# Altium footprint library ECE299_PCB.PcbLib: 24 footprints (part 2 of 2)
Each footprint in its own frame and in the unit in brackets; x right, y up, seen from the top. Pads: shape width x height; smd on the part's side, far side on the other; paste and mask are expansions set on the pad; w line width, h text height; cw(c..) or ccw(c..) is an arc to the next point about the centre after c.
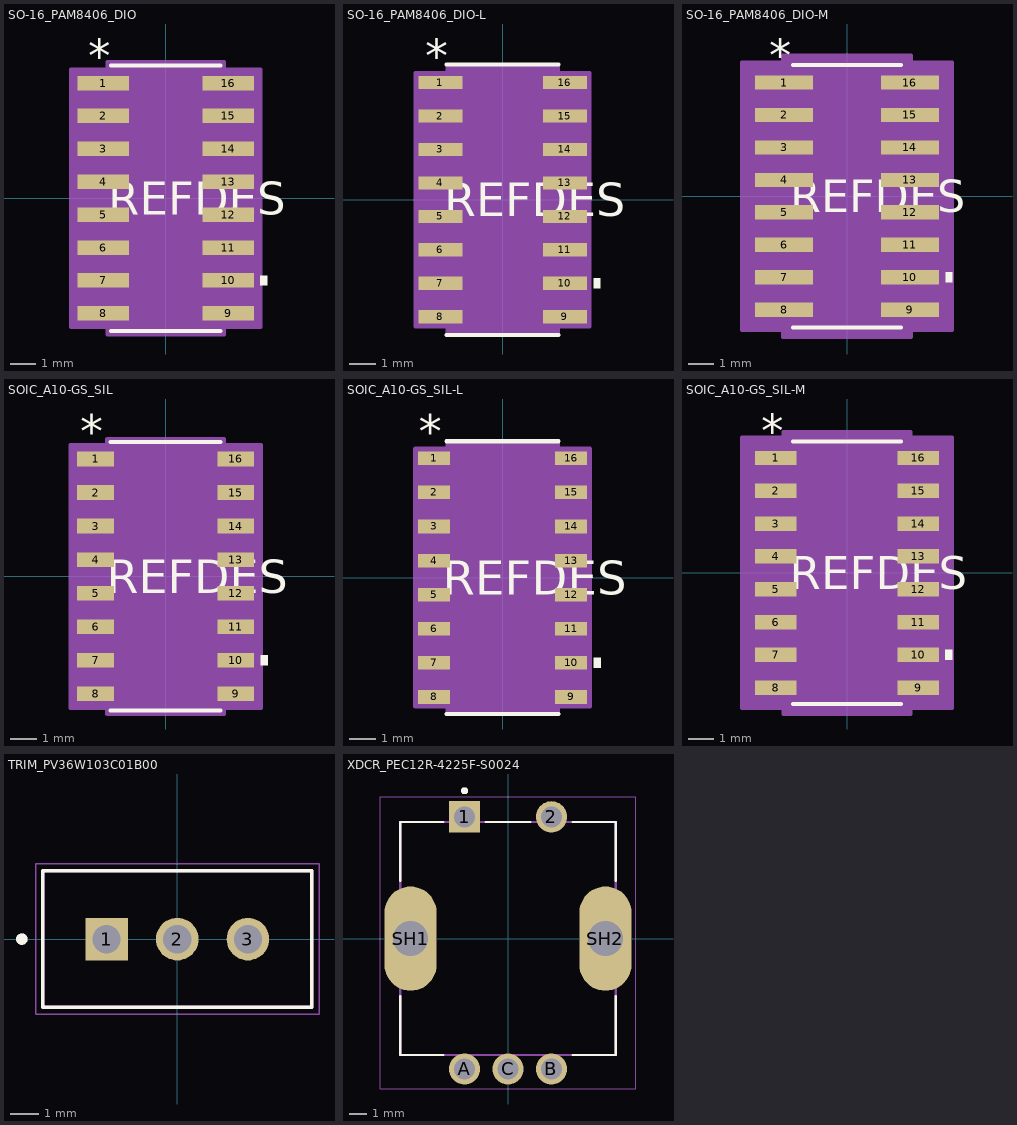
[diagram p1: the footprints below, top view; thin cyan lines are the x and y axes]

## SO-16_PAM8406_DIO [mil]
pads (16):
  rect 78x22 smd paste+0 mask+0: 1(-95,175) 2(-95,125) 3(-95,75) 4(-95,25) 5(-95,-25) 6(-95,-75) 7(-95,-125) 8(-95,-175) 9(95,-175) 10(95,-125) 11(95,-75) 12(95,-25) 13(95,25) 14(95,75) 15(95,125) 16(95,175)
Top Overlay:
  region: 144,-117.5 154,-117.5 154,-132.5 144,-132.5
  lines w6: -83.5,-202 83.5,-202 ; -83.5,202 83.5,202
  text "*" at -117.5,192 h50
  text "REFDES" at -87.5,-25 h50
Mechanical 13:
  lines w0: -12,197 ccw(c0,197) 12,197
  lines w1: -120,-185 -78.5,-185 -78.5,-165 -120,-165 -120,-185 ; -120,-135 -78.5,-135 -78.5,-115 -120,-115 -120,-135 ; -120,-85 -78.5,-85 -78.5,-65 -120,-65 -120,-85 ; -120,-35 -78.5,-35 -78.5,-15 -120,-15 -120,-35 ; -120,15 -78.5,15 -78.5,35 -120,35 -120,15 ; -120,65 -78.5,65 -78.5,85 -120,85 -120,65 ; -120,115 -78.5,115 -78.5,135 -120,135 -120,115 ; -120,165 -78.5,165 -78.5,185 -120,185 -120,165 ; -78.5,-197 -78.5,197 78.5,197 78.5,-197 -78.5,-197 ; 78.5,-185 120,-185 120,-165 78.5,-165 78.5,-185 ; 78.5,-135 120,-135 120,-115 78.5,-115 78.5,-135 ; 78.5,-85 120,-85 120,-65 78.5,-65 78.5,-85 ; 78.5,-35 120,-35 120,-15 78.5,-15 78.5,-35 ; 78.5,15 120,15 120,35 78.5,35 78.5,15 ; 78.5,65 120,65 120,85 78.5,85 78.5,65 ; 78.5,115 120,115 120,135 78.5,135 78.5,115 ; 78.5,165 120,165 120,185 78.5,185 78.5,165
  text "RefDes2" at -87.5,-25 h50
  text "*" at -76,144 h50
Mechanical 15:
  region: -88.5,-196 -144,-196 -144,196 -88.5,196 -88.5,207 88.5,207 88.5,196 144,196 144,-196 88.5,-196 88.5,-207 -88.5,-207
  lines w6: -144,-196 -88.5,-196 -88.5,-207 88.5,-207 88.5,-196 144,-196 144,196 88.5,196 88.5,207 -88.5,207 -88.5,196 -144,196 -144,-196
3D body "SO-16_PAM8406_DIO.step": height 50.12, standoff 0, extent -120,-197.01 120,197.01

## SO-16_PAM8406_DIO-L [mil]
pads (16):
  rect 66x20 smd paste+0 mask+0: 1(-93,175) 2(-93,125) 3(-93,75) 4(-93,25) 5(-93,-25) 6(-93,-75) 7(-93,-125) 8(-93,-175) 9(93,-175) 10(93,-125) 11(93,-75) 12(93,-25) 13(93,25) 14(93,75) 15(93,125) 16(93,175)
Top Overlay:
  region: 136,-117.5 146,-117.5 146,-132.5 136,-132.5
  lines w6: -83.5,-202 83.5,-202 ; -83.5,202 83.5,202
  text "REFDES" at -87.5,-25 h50
  text "*" at -115.5,190 h50
Mechanical 13:
  lines w0: -12,197 ccw(c0,197) 12,197
  lines w1: -120,-185 -120,-165 -78.5,-165 -78.5,-185 -120,-185 ; -120,-135 -120,-115 -78.5,-115 -78.5,-135 -120,-135 ; -120,-85 -120,-65 -78.5,-65 -78.5,-85 -120,-85 ; -120,-35 -120,-15 -78.5,-15 -78.5,-35 -120,-35 ; -120,15 -120,35 -78.5,35 -78.5,15 -120,15 ; -120,65 -120,85 -78.5,85 -78.5,65 -120,65 ; -120,115 -120,135 -78.5,135 -78.5,115 -120,115 ; -120,165 -120,185 -78.5,185 -78.5,165 -120,165 ; -78.5,-197 78.5,-197 78.5,197 -78.5,197 -78.5,-197 ; 78.5,-185 78.5,-165 120,-165 120,-185 78.5,-185 ; 78.5,-135 78.5,-115 120,-115 120,-135 78.5,-135 ; 78.5,-85 78.5,-65 120,-65 120,-85 78.5,-85 ; 78.5,-35 78.5,-15 120,-15 120,-35 78.5,-35 ; 78.5,15 78.5,35 120,35 120,15 78.5,15 ; 78.5,65 78.5,85 120,85 120,65 78.5,65 ; 78.5,115 78.5,135 120,135 120,115 78.5,115 ; 78.5,165 78.5,185 120,185 120,165 78.5,165
  text "*" at -76,144 h50
  text "RefDes2" at -87.5,-25 h50
Mechanical 15:
  region: -82.5,-189 -130,-189 -130,189 -82.5,189 -82.5,201 82.5,201 82.5,189 130,189 130,-189 82.5,-189 82.5,-201 -82.5,-201
  lines w6: -130,-189 -130,189 -82.5,189 -82.5,201 82.5,201 82.5,189 130,189 130,-189 82.5,-189 82.5,-201 -82.5,-201 -82.5,-189 -130,-189
3D body "SO-16_PAM8406_DIO.step": height 50.12, standoff 0, extent -120,-197.01 120,197.01

## SO-16_PAM8406_DIO-M [mil]
pads (16):
  rect 90x22 smd paste+0 mask+0: 1(-97,175) 2(-97,125) 3(-97,75) 4(-97,25) 5(-97,-25) 6(-97,-75) 7(-97,-125) 8(-97,-175) 9(97,-175) 10(97,-125) 11(97,-75) 12(97,-25) 13(97,25) 14(97,75) 15(97,125) 16(97,175)
Top Overlay:
  region: 152,-117.5 162,-117.5 162,-132.5 152,-132.5
  lines w6: -83.5,-202 83.5,-202 ; -83.5,202 83.5,202
  text "*" at -119.5,192 h50
  text "REFDES" at -87.5,-25 h50
Mechanical 13:
  lines w0: -12,197 ccw(c0,197) 12,197
  lines w1: -120,-185 -78.5,-185 -78.5,-165 -120,-165 -120,-185 ; -120,-135 -78.5,-135 -78.5,-115 -120,-115 -120,-135 ; -120,-85 -78.5,-85 -78.5,-65 -120,-65 -120,-85 ; -120,-35 -78.5,-35 -78.5,-15 -120,-15 -120,-35 ; -120,15 -78.5,15 -78.5,35 -120,35 -120,15 ; -120,65 -78.5,65 -78.5,85 -120,85 -120,65 ; -120,115 -78.5,115 -78.5,135 -120,135 -120,115 ; -120,165 -78.5,165 -78.5,185 -120,185 -120,165 ; -78.5,-197 -78.5,197 78.5,197 78.5,-197 -78.5,-197 ; 78.5,-185 120,-185 120,-165 78.5,-165 78.5,-185 ; 78.5,-135 120,-135 120,-115 78.5,-115 78.5,-135 ; 78.5,-85 120,-85 120,-65 78.5,-65 78.5,-85 ; 78.5,-35 120,-35 120,-15 78.5,-15 78.5,-35 ; 78.5,15 120,15 120,35 78.5,35 78.5,15 ; 78.5,65 120,65 120,85 78.5,85 78.5,65 ; 78.5,115 120,115 120,135 78.5,135 78.5,115 ; 78.5,165 120,165 120,185 78.5,185 78.5,165
  text "RefDes2" at -87.5,-25 h50
  text "*" at -76,144 h50
Mechanical 15:
  region: -98.5,-206 -162,-206 -162,206 -98.5,206 -98.5,217 98.5,217 98.5,206 162,206 162,-206 98.5,-206 98.5,-217 -98.5,-217
  lines w6: -162,-206 -98.5,-206 -98.5,-217 98.5,-217 98.5,-206 162,-206 162,206 98.5,206 98.5,217 -98.5,217 -98.5,206 -162,206 -162,-206
3D body "SO-16_PAM8406_DIO.step": height 50.12, standoff 0, extent -120,-197.01 120,197.01

## SOIC_A10-GS_SIL [mil]
pads (16):
  rect 55x22 smd paste+0 mask+0: 1(-104.5,175) 2(-104.5,125) 3(-104.5,75) 4(-104.5,25) 5(-104.5,-25) 6(-104.5,-75) 7(-104.5,-125) 8(-104.5,-175) 9(104.5,-175) 10(104.5,-125) 11(104.5,-75) 12(104.5,-25) 13(104.5,25) 14(104.5,75) 15(104.5,125) 16(104.5,175)
Top Overlay:
  region: 142,-117.5 152,-117.5 152,-132.5 142,-132.5
  lines w6: -82,-200 82,-200 ; -82,200 82,200
  text "REFDES" at -87.5,-25 h50
  text "*" at -127,192 h50
Mechanical 13:
  lines w0: -12,195 ccw(c0,195) 12,195
  lines w1: -118,-185 -118,-165 -77,-165 -77,-185 -118,-185 ; -118,-135 -118,-115 -77,-115 -77,-135 -118,-135 ; -118,-85 -118,-65 -77,-65 -77,-85 -118,-85 ; -118,-35 -118,-15 -77,-15 -77,-35 -118,-35 ; -118,15 -118,35 -77,35 -77,15 -118,15 ; -118,65 -118,85 -77,85 -77,65 -118,65 ; -118,115 -118,135 -77,135 -77,115 -118,115 ; -118,165 -118,185 -77,185 -77,165 -118,165 ; -77,-195 77,-195 77,195 -77,195 -77,-195 ; 77,-185 77,-165 118,-165 118,-185 77,-185 ; 77,-135 77,-115 118,-115 118,-135 77,-135 ; 77,-85 77,-65 118,-65 118,-85 77,-85 ; 77,-35 77,-15 118,-15 118,-35 77,-35 ; 77,15 77,35 118,35 118,15 77,15 ; 77,65 77,85 118,85 118,65 77,65 ; 77,115 77,135 118,135 118,115 77,115 ; 77,165 77,185 118,185 118,165 77,165
  text "*" at -74.5,142 h50
  text "RefDes2" at -87.5,-25 h50
Mechanical 15:
  region: -87,-196 -142,-196 -142,196 -87,196 -87,205 87,205 87,196 142,196 142,-196 87,-196 87,-205 -87,-205
  lines w6: -142,-196 -142,196 -87,196 -87,205 87,205 87,196 142,196 142,-196 87,-196 87,-205 -87,-205 -87,-196 -142,-196
3D body "SOIC_A10-GS_SIL.step": height 69.09, standoff 0, extent -117.99,-195 117.99,195

## SOIC_A10-GS_SIL-L [mil]
pads (16):
  rect 47x20 smd paste+0 mask+0: 1(-100.5,175) 2(-100.5,125) 3(-100.5,75) 4(-100.5,25) 5(-100.5,-25) 6(-100.5,-75) 7(-100.5,-125) 8(-100.5,-175) 9(100.5,-175) 10(100.5,-125) 11(100.5,-75) 12(100.5,-25) 13(100.5,25) 14(100.5,75) 15(100.5,125) 16(100.5,175)
Top Overlay:
  region: 134,-117.5 144,-117.5 144,-132.5 134,-132.5
  lines w6: -82,-200 82,-200 ; -82,200 82,200
  text "*" at -123,190 h50
  text "REFDES" at -87.5,-25 h50
Mechanical 13:
  lines w0: -12,195 ccw(c0,195) 12,195
  lines w1: -118,-185 -77,-185 -77,-165 -118,-165 -118,-185 ; -118,-135 -77,-135 -77,-115 -118,-115 -118,-135 ; -118,-85 -77,-85 -77,-65 -118,-65 -118,-85 ; -118,-35 -77,-35 -77,-15 -118,-15 -118,-35 ; -118,15 -77,15 -77,35 -118,35 -118,15 ; -118,65 -77,65 -77,85 -118,85 -118,65 ; -118,115 -77,115 -77,135 -118,135 -118,115 ; -118,165 -77,165 -77,185 -118,185 -118,165 ; -77,-195 -77,195 77,195 77,-195 -77,-195 ; 77,-185 118,-185 118,-165 77,-165 77,-185 ; 77,-135 118,-135 118,-115 77,-115 77,-135 ; 77,-85 118,-85 118,-65 77,-65 77,-85 ; 77,-35 118,-35 118,-15 77,-15 77,-35 ; 77,15 118,15 118,35 77,35 77,15 ; 77,65 118,65 118,85 77,85 77,65 ; 77,115 118,115 118,135 77,135 77,115 ; 77,165 118,165 118,185 77,185 77,165
  text "RefDes2" at -87.5,-25 h50
  text "*" at -74.5,142 h50
Mechanical 15:
  region: -81,-189 -128,-189 -128,189 -81,189 -81,199 81,199 81,189 128,189 128,-189 81,-189 81,-199 -81,-199
  lines w6: -128,-189 -81,-189 -81,-199 81,-199 81,-189 128,-189 128,189 81,189 81,199 -81,199 -81,189 -128,189 -128,-189
3D body "SOIC_A10-GS_SIL.step": height 69.09, standoff 0, extent -117.99,-195 117.99,195

## SOIC_A10-GS_SIL-M [mil]
pads (16):
  rect 63x22 smd paste+0 mask+0: 1(-108.5,175) 2(-108.5,125) 3(-108.5,75) 4(-108.5,25) 5(-108.5,-25) 6(-108.5,-75) 7(-108.5,-125) 8(-108.5,-175) 9(108.5,-175) 10(108.5,-125) 11(108.5,-75) 12(108.5,-25) 13(108.5,25) 14(108.5,75) 15(108.5,125) 16(108.5,175)
Top Overlay:
  region: 150,-117.5 160,-117.5 160,-132.5 150,-132.5
  lines w6: -82,-200 82,-200 ; -82,200 82,200
  text "*" at -131,192 h50
  text "REFDES" at -87.5,-25 h50
Mechanical 13:
  lines w0: -12,195 ccw(c0,195) 12,195
  lines w1: -118,-185 -77,-185 -77,-165 -118,-165 -118,-185 ; -118,-135 -77,-135 -77,-115 -118,-115 -118,-135 ; -118,-85 -77,-85 -77,-65 -118,-65 -118,-85 ; -118,-35 -77,-35 -77,-15 -118,-15 -118,-35 ; -118,15 -77,15 -77,35 -118,35 -118,15 ; -118,65 -77,65 -77,85 -118,85 -118,65 ; -118,115 -77,115 -77,135 -118,135 -118,115 ; -118,165 -77,165 -77,185 -118,185 -118,165 ; -77,-195 -77,195 77,195 77,-195 -77,-195 ; 77,-185 118,-185 118,-165 77,-165 77,-185 ; 77,-135 118,-135 118,-115 77,-115 77,-135 ; 77,-85 118,-85 118,-65 77,-65 77,-85 ; 77,-35 118,-35 118,-15 77,-15 77,-35 ; 77,15 118,15 118,35 77,35 77,15 ; 77,65 118,65 118,85 77,85 77,65 ; 77,115 118,115 118,135 77,135 77,115 ; 77,165 118,165 118,185 77,185 77,165
  text "RefDes2" at -87.5,-25 h50
  text "*" at -74.5,142 h50
Mechanical 15:
  region: -97,-206 -160,-206 -160,206 -97,206 -97,215 97,215 97,206 160,206 160,-206 97,-206 97,-215 -97,-215
  lines w6: -160,-206 -97,-206 -97,-215 97,-215 97,-206 160,-206 160,206 97,206 97,215 -97,215 -97,206 -160,206 -160,-206
3D body "SOIC_A10-GS_SIL.step": height 69.09, standoff 0, extent -117.99,-195 117.99,195

## TRIM_PV36W103C01B00 [mm]
height 10.03
pads (3):
  rect 1.508x1.508 / inner round 1.508 / far side rect 1.508x1.508 hole 1: 1(-2.5,0)
  round 1.508 hole 1: 2(0,0) 3(2.5,0)
Top Overlay:
  circle w0.2: c-5.5,0 r0.1
  lines w0.127: -4.765,-2.41 -4.765,2.42 4.765,2.42 4.765,-2.41 -4.765,-2.41
Mechanical 13:
  circle w0.2: c-5.5,0 r0.1
  lines w0.127: -4.765,-2.41 -4.765,2.42 4.765,2.42 4.765,-2.41 -4.765,-2.41
Mechanical 15:
  lines w0.05: -5.015,-2.66 -5.015,2.67 5.015,2.67 5.015,-2.66 -5.015,-2.66
3D body "step_temp.STEP": height 11.55, standoff -7.72, extent -4.765,-2.41 4.765,2.42

## XDCR_PEC12R-4225F-S0024 [mm]
height 20.5
pads (7):
  rect 1.8x1.8 / inner round 1.8 / far side rect 1.8x1.8 hole 1.2: 1(-2.5,7)
  round 1.8 hole 1.2: 2(2.5,7) A(-2.5,-7.5) B(2.5,-7.5) C(0,-7.5)
  oval 3x6 hole 2 square: SH1(-5.6,0) SH2(5.6,0)
Top Overlay:
  circle w0.2: c-2.5,8.5 r0.1
  lines w0.127: -6.2,-3.32 -6.2,-6.7 -3.72,-6.7 ; -6.2,3.32 -6.2,6.7 -3.72,6.7 ; -1.28,6.7 1.28,6.7 ; 3.72,-6.7 6.2,-6.7 6.2,-3.32 ; 3.72,6.7 6.2,6.7 6.2,3.32
Mechanical 13:
  circle w0.2: c-2.5,8.5 r0.1
  lines w0.127: -6.2,-6.7 6.2,-6.7 6.2,6.7 -6.2,6.7 -6.2,-6.7
Mechanical 15:
  lines w0.05: -7.35,-8.65 7.35,-8.65 7.35,8.15 -7.35,8.15 -7.35,-8.65
3D body "step_temp.STEP": height 25, standoff -3.5, extent -7,-7.7 7,7.2